# Altium schematic symbol library Schlib_EGmicro.SchLib: 1 symbol
Pins are listed as number, name and electrical type; pins without a type are passive.

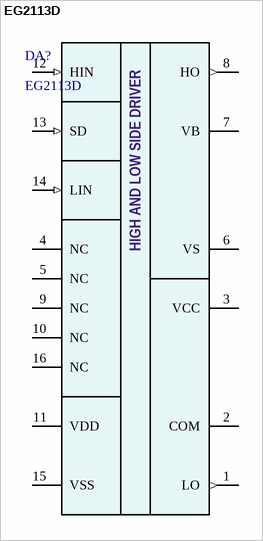
[diagram p0: symbol EG2113D]

## EG2113D
designator DA?
Half-bridge driver; Manufacturer: EGmicro; Part Number: EG2113D; Package: SO-16W
footprint SO-16W (SOIC, 16-Leads, Body 10.29x7.49mm, Pitch 1.27mm, IPC Medium Density)
pins: 1 LO (out), 2 COM (power), 3 VCC (power), 4 NC (hiz), 5 NC (hiz), 6 VS (power), 7 VB (power), 8 HO (out), 9 NC (hiz), 10 NC (hiz), 11 VDD (power), 12 HIN (in), 13 SD (in), 14 LIN (in), 15 VSS (power), 16 NC (hiz)
text: HIGH AND LOW SIDE DRIVER